# Altium schematic symbol library NFC原理图库.SchLib: 11 symbols
Pins are listed as number, name and electrical type; pins without a type are passive.

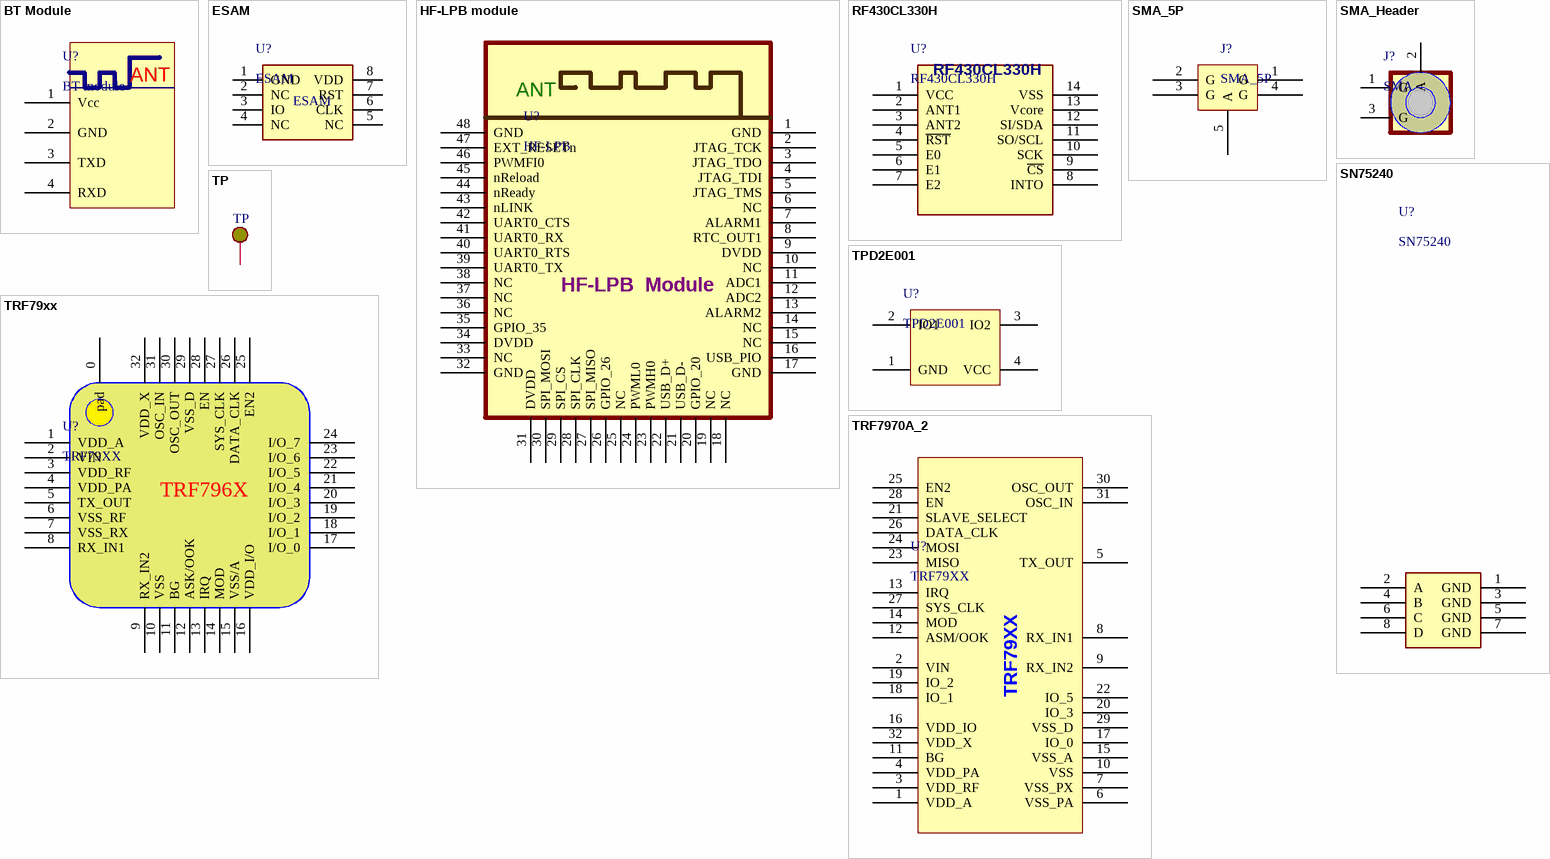
[diagram p0: symbols BT Module to TRF7970A_2]

## BT Module
designator U?, comment BT module
pins: 1 Vcc, 2 GND, 3 TXD, 4 RXD
text: ANT

## ESAM
designator U?
pins: 1 GND, 2 NC, 3 IO, 4 NC, 5 NC, 6 CLK, 7 RST, 8 VDD

## HF-LPB module
designator U?, comment HF-LPB
pins: 1 GND, 2 JTAG_TCK, 3 JTAG_TDO, 4 JTAG_TDI, 5 JTAG_TMS, 6 NC, 7 ALARM1, 8 RTC_OUT1, 9 DVDD, 10 NC, 11 ADC1, 12 ADC2, 13 ALARM2, 14 NC, 15 NC, 16 USB_PIO, 17 GND, 18 NC, 19 NC, 20 GPIO_20, 21 USB_D-, 22 USB_D+, 23 PWMH0, 24 PWML0, 25 NC, 26 GPIO_26, 27 SPI_MISO, 28 SPI_CLK, 29 SPI_CS, 30 SPI_MOSI, 31 DVDD, 32 GND, 33 NC, 34 DVDD, 35 GPIO_35, 36 NC, 37 NC, 38 NC, 39 UART0_TX, 40 UART0_RTS, 41 UART0_RX, 42 UART0_CTS, 43 nLINK, 44 nReady, 45 nReload, 46 PWMFI0, 47 EXT_RESETn, 48 GND
text: ANT; HF-LPB  Module

## RF430CL330H
designator U?
pins: 1 VCC, 2 ANT1, 3 ANT2, 4 ~{RST}, 5 E0, 6 E1, 7 E2, 8 INTO, 9 ~{CS}, 10 SCK, 11 SO/SCL, 12 SI/SDA, 13 Vcore, 14 VSS

## SMA_5P
designator J?
pins: 1 G, 2 G, 3 G, 4 G, 5 A

## SMA_Header
designator J?, comment SMA
pins: 1 G, 2 A, 3 G

## SN75240
designator U?
pins: 1 GND, 2 A, 3 GND, 4 B, 5 GND, 6 C, 7 GND, 8 D

## TP
designator TP  (value not drawn)
pins: ?1

## TPD2E001
designator U?
pins: 1 GND, 2 IO1, 3 IO2, 4 VCC

## TRF79xx
designator U?, comment TRF79XX
pins: 0 pad, 1 VDD_A, 2 VIN, 3 VDD_RF, 4 VDD_PA, 5 TX_OUT, 6 VSS_RF, 7 VSS_RX, 8 RX_IN1, 9 RX_IN2, 10 VSS, 11 BG, 12 ASK/OOK, 13 IRQ, 14 MOD, 15 VSS/A, 16 VDD_I/O, 17 I/O_0, 18 I/O_1, 19 I/O_2, 20 I/O_3, 21 I/O_4, 22 I/O_5, 23 I/O_6, 24 I/O_7, 25 EN2, 26 DATA_CLK, 27 SYS_CLK, 28 EN, 29 VSS_D, 30 OSC_OUT, 31 OSC_IN, 32 VDD_X
text: TRF796X

## TRF7970A_2
designator U?, comment TRF79XX
pins: 1 VDD_A, 2 VIN, 3 VDD_RF, 4 VDD_PA, 5 TX_OUT, 6 VSS_PA, 7 VSS_PX, 8 RX_IN1, 9 RX_IN2, 10 VSS, 11 BG, 12 ASM/OOK, 13 IRQ, 14 MOD, 15 VSS_A, 16 VDD_IO, 17 IO_0, 18 IO_1, 19 IO_2, 20 IO_3, 21 SLAVE_SELECT, 22 IO_5, 23 MISO, 24 MOSI, 25 EN2, 26 DATA_CLK, 27 SYS_CLK, 28 EN, 29 VSS_D, 30 OSC_OUT, 31 OSC_IN, 32 VDD_X